# Altium schematic symbol library JS0204AP4-R.SchLib: 1 symbol
Pins are listed as number, name and electrical type; pins without a type are passive.

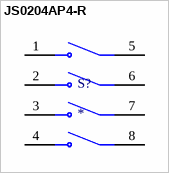
[diagram p0: symbol JS0204AP4-R]

## JS0204AP4-R
designator S?
Công Tắc DIP Switch Dán SMD 4 Bit 2.54mm; MP: JS0204AP4-R; Package: None; Price: None; Value: *; Availability: Unavailable
footprint SW_JS0204AP4-R
pins: 1, 2, 3, 4, 5, 6, 7, 8